# EAGLE library part CD74HC283 (library Soldering Workshop Library)
A 4 bit adder
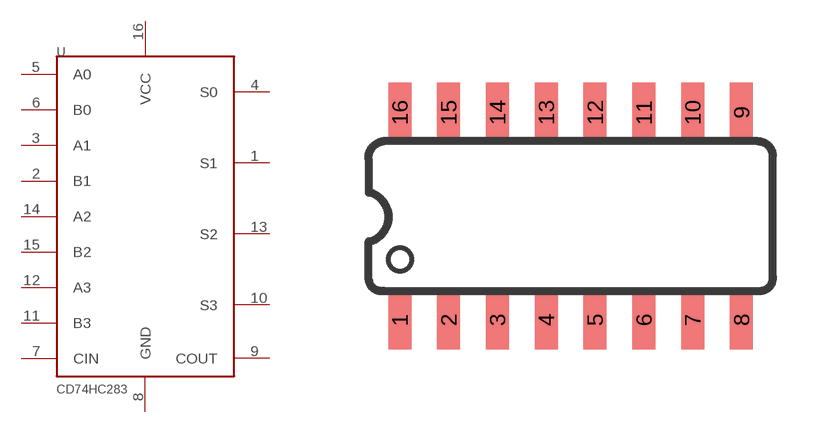
[diagram p0: symbol with the pads of SO016; footprint SO016]

Designator prefix -

## CD74HC283  [SO016]
1  S1
2  B1
3  A1
4  S0
5  A0
6  B0
7  CIN
8  GND
9  COUT
10  S3
11  B3
12  A3
13  S2
14  A2
15  B2
16  VCC

## Footprint SO016 (pad centres in mm)
smd 0.6 x 1.55: 1 -4.445,-2.7; 2 -3.175,-2.7; 3 -1.905,-2.7; 4 -0.635,-2.7; 5 0.635,-2.7; 6 1.905,-2.7; 7 3.175,-2.7; 8 4.445,-2.7; 9 4.445,2.7; 10 3.175,2.7; 11 1.905,2.7; 12 0.635,2.7; 13 -0.635,2.7; 14 -1.905,2.7; 15 -3.175,2.7; 16 -4.445,2.7